# Altium footprint library TQFP.PcbLib: 8 footprints
Each footprint in its own frame and in the unit in brackets; x right, y up, seen from the top. Pads: shape width x height; smd on the part's side, far side on the other; paste and mask are expansions set on the pad; w line width, h text height; cw(c..) or ccw(c..) is an arc to the next point about the centre after c.
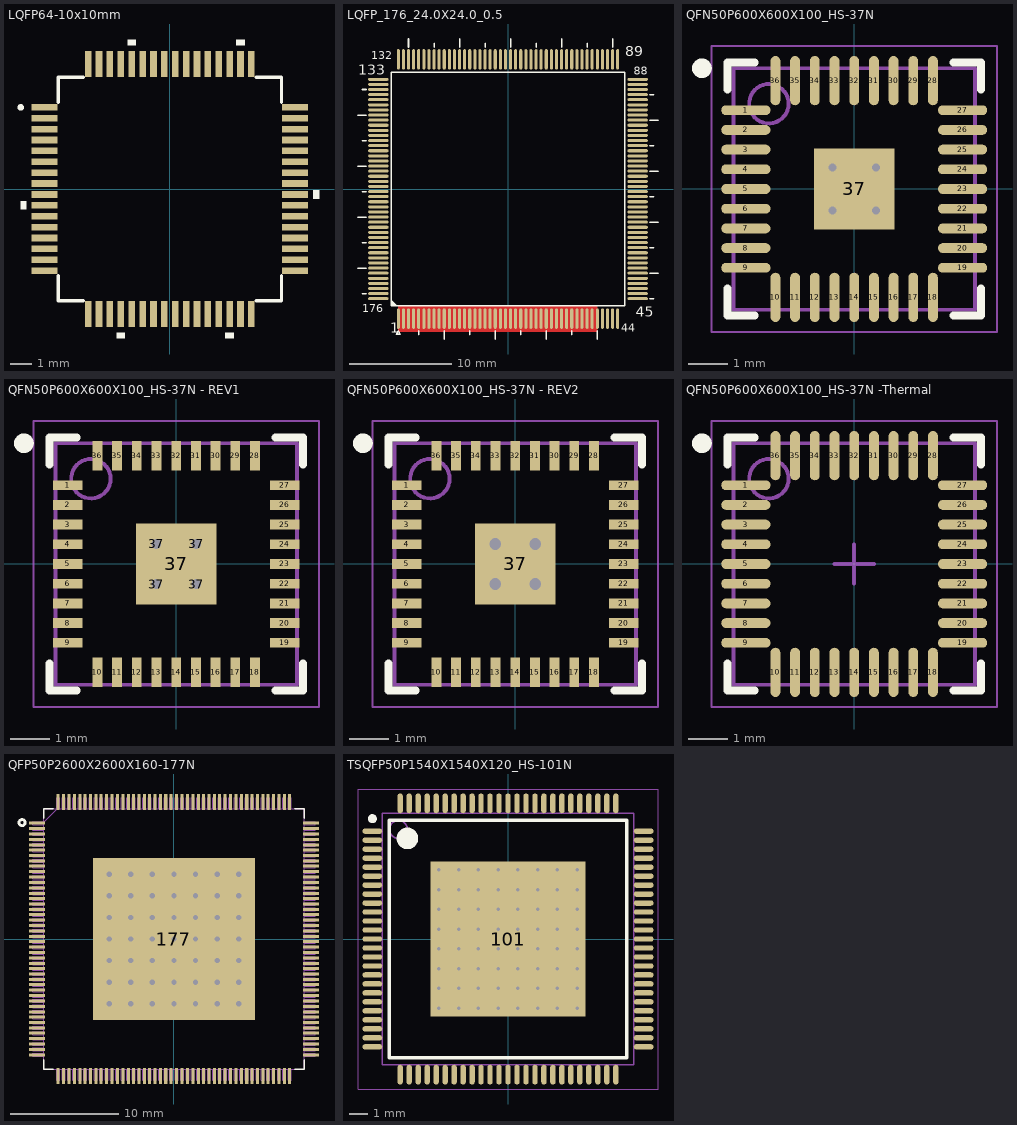
[diagram p0: the footprints below, top view; thin cyan lines are the x and y axes]

## LQFP64-10x10mm [mm] "Pitch 0.50mm"
height 1.4
pads (64):
  rect 1.194x0.305 smd: 1(-5.75,3.75) 2(-5.75,3.25) 3(-5.75,2.75) 4(-5.75,2.25) 5(-5.75,1.75) 6(-5.75,1.25) 7(-5.75,0.75) 8(-5.75,0.25) 9(-5.75,-0.25) 10(-5.75,-0.75) 11(-5.75,-1.25) 12(-5.75,-1.75) 13(-5.75,-2.25) 14(-5.75,-2.75) 15(-5.75,-3.25) 16(-5.75,-3.75) 33(5.75,-3.75) 34(5.75,-3.25) 35(5.75,-2.75) 36(5.75,-2.25) 37(5.75,-1.75) 38(5.75,-1.25) 39(5.75,-0.75) 40(5.75,-0.25) 41(5.75,0.25) 42(5.75,0.75) 43(5.75,1.25) 44(5.75,1.75) 45(5.75,2.25) 46(5.75,2.75) 47(5.75,3.25) 48(5.75,3.75)
  rect 0.305x1.194 smd: 17(-3.75,-5.75) 18(-3.25,-5.75) 19(-2.75,-5.75) 20(-2.25,-5.75) 21(-1.75,-5.75) 22(-1.25,-5.75) 23(-0.75,-5.75) 24(-0.25,-5.75) 25(0.25,-5.75) 26(0.75,-5.75) 27(1.25,-5.75) 28(1.75,-5.75) 29(2.25,-5.75) 30(2.75,-5.75) 31(3.25,-5.75) 32(3.75,-5.75) 49(3.75,5.75) 50(3.25,5.75) 51(2.75,5.75) 52(2.25,5.75) 53(1.75,5.75) 54(1.25,5.75) 55(0.75,5.75) 56(0.25,5.75) 57(-0.25,5.75) 58(-0.75,5.75) 59(-1.25,5.75) 60(-1.75,5.75) 61(-2.25,5.75) 62(-2.75,5.75) 63(-3.25,5.75) 64(-3.75,5.75)
Top Overlay:
  circle w0.152: c-6.851,3.75 r0.076
  region: -1.559,6.601 -1.94,6.601 -1.94,6.855 -1.559,6.855
  region: 3.441,6.601 3.06,6.601 3.06,6.855 3.441,6.855
  region: 6.601,-0.059 6.855,-0.059 6.855,-0.44 6.601,-0.44
  region: 2.94,-6.601 2.559,-6.601 2.559,-6.855 2.94,-6.855
  region: -2.06,-6.601 -2.441,-6.601 -2.441,-6.855 -2.06,-6.855
  region: -6.601,-0.56 -6.855,-0.56 -6.855,-0.941 -6.601,-0.941
  lines w0.152: -5.131,-3.975 -5.131,-5.131 -3.975,-5.131 ; -5.131,3.975 -5.131,5.131 -3.975,5.131 ; 3.975,-5.131 5.131,-5.131 5.131,-3.975 ; 3.975,5.131 5.131,5.131 5.131,3.975
3D body "LQFP64-10x10mm.step": height 1.6, standoff 0, extent -5.997,-5.997 5.997,5.997

## LQFP_176_24.0X24.0_0.5 [mm]
pads (176):
  oval 0.3x2 smd: 1(-10.75,-12.7) 2(-10.25,-12.7) 3(-9.75,-12.7) 4(-9.25,-12.7) 5(-8.75,-12.7) 6(-8.25,-12.7) 7(-7.75,-12.7) 8(-7.25,-12.7) 9(-6.75,-12.7) 10(-6.25,-12.7) 11(-5.75,-12.7) 12(-5.25,-12.7) 13(-4.75,-12.7) 14(-4.25,-12.7) 15(-3.75,-12.7) 16(-3.25,-12.7) 17(-2.75,-12.7) 18(-2.25,-12.7) 19(-1.75,-12.7) 20(-1.25,-12.7) 21(-0.75,-12.7) 22(-0.25,-12.7) 23(0.25,-12.7) 24(0.75,-12.7) 25(1.25,-12.7) 26(1.75,-12.7) 27(2.25,-12.7) 28(2.75,-12.7) 29(3.25,-12.7) 30(3.75,-12.7) 31(4.25,-12.7) 32(4.75,-12.7) 33(5.25,-12.7) 34(5.75,-12.7) 35(6.25,-12.7) 36(6.75,-12.7) 37(7.25,-12.7) 38(7.75,-12.7) 39(8.25,-12.7) 40(8.75,-12.7) 41(9.25,-12.7) 42(9.75,-12.7) 43(10.25,-12.7) 44(10.75,-12.7) 89(10.75,12.7) 90(10.25,12.7) 91(9.75,12.7) 92(9.25,12.7) 93(8.75,12.7) 94(8.25,12.7) 95(7.75,12.7) 96(7.25,12.7) 97(6.75,12.7) 98(6.25,12.7) 99(5.75,12.7) 100(5.25,12.7) 101(4.75,12.7) 102(4.25,12.7) 103(3.75,12.7) 104(3.25,12.7) 105(2.75,12.7) 106(2.25,12.7) 107(1.75,12.7) 108(1.25,12.7) 109(0.75,12.7) 110(0.25,12.7) 111(-0.25,12.7) 112(-0.75,12.7) 113(-1.25,12.7) 114(-1.75,12.7) 115(-2.25,12.7) 116(-2.75,12.7) 117(-3.25,12.7) 118(-3.75,12.7) 119(-4.25,12.7) 120(-4.75,12.7) 121(-5.25,12.7) 122(-5.75,12.7) 123(-6.25,12.7) 124(-6.75,12.7) 125(-7.25,12.7) 126(-7.75,12.7) 127(-8.25,12.7) 128(-8.75,12.7) 129(-9.25,12.7) 130(-9.75,12.7) 131(-10.25,12.7) 132(-10.75,12.7)
  oval 2x0.3 smd: 45(12.7,-10.75) 46(12.7,-10.25) 47(12.7,-9.75) 48(12.7,-9.25) 49(12.7,-8.75) 50(12.7,-8.25) 51(12.7,-7.75) 52(12.7,-7.25) 53(12.7,-6.75) 54(12.7,-6.25) 55(12.7,-5.75) 56(12.7,-5.25) 57(12.7,-4.75) 58(12.7,-4.25) 59(12.7,-3.75) 60(12.7,-3.25) 61(12.7,-2.75) 62(12.7,-2.25) 63(12.7,-1.75) 64(12.7,-1.25) 65(12.7,-0.75) 66(12.7,-0.25) 67(12.7,0.25) 68(12.7,0.75) 69(12.7,1.25) 70(12.7,1.75) 71(12.7,2.25) 72(12.7,2.75) 73(12.7,3.25) 74(12.7,3.75) 75(12.7,4.25) 76(12.7,4.75) 77(12.7,5.25) 78(12.7,5.75) 79(12.7,6.25) 80(12.7,6.75) 81(12.7,7.25) 82(12.7,7.75) 83(12.7,8.25) 84(12.7,8.75) 85(12.7,9.25) 86(12.7,9.75) 87(12.7,10.25) 88(12.7,10.75) 133(-12.7,10.75) 134(-12.7,10.25) 135(-12.7,9.75) 136(-12.7,9.25) 137(-12.7,8.75) 138(-12.7,8.25) 139(-12.7,7.75) 140(-12.7,7.25) 141(-12.7,6.75) 142(-12.7,6.25) 143(-12.7,5.75) 144(-12.7,5.25) 145(-12.7,4.75) 146(-12.7,4.25) 147(-12.7,3.75) 148(-12.7,3.25) 149(-12.7,2.75) 150(-12.7,2.25) 151(-12.7,1.75) 152(-12.7,1.25) 153(-12.7,0.75) 154(-12.7,0.25) 155(-12.7,-0.25) 156(-12.7,-0.75) 157(-12.7,-1.25) 158(-12.7,-1.75) 159(-12.7,-2.25) 160(-12.7,-2.75) 161(-12.7,-3.25) 162(-12.7,-3.75) 163(-12.7,-4.25) 164(-12.7,-4.75) 165(-12.7,-5.25) 166(-12.7,-5.75) 167(-12.7,-6.25) 168(-12.7,-6.75) 169(-12.7,-7.25) 170(-12.7,-7.75) 171(-12.7,-8.25) 172(-12.7,-8.75) 173(-12.7,-9.25) 174(-12.7,-9.75) 175(-12.7,-10.25) 176(-12.7,-10.75)
Top Layer:
  pour cut-out: -10.75,-11.4 8.75,-11.4 8.75,-14 -10.75,-14
Top Overlay:
  region: -11.425,-10.925 -11.425,-11.425 -10.925,-11.425
  lines w0.15: -14.7,-7.75 -13.9,-7.75 ; -14.7,-2.75 -13.9,-2.75 ; -14.7,2.25 -13.9,2.25 ; -14.7,7.25 -13.9,7.25 ; -14.3,-10.25 -13.9,-10.25 ; -14.3,-5.25 -13.9,-5.25 ; -14.3,-0.25 -13.9,-0.25 ; -14.3,4.75 -13.9,4.75 ; -14.3,9.75 -13.9,9.75 ; -11.425,-10.925 -10.925,-11.425 ; -9.75,13.9 -9.75,14.7 ; -8.75,-14.3 -8.75,-13.9 ; -7.25,13.9 -7.25,14.3 ; -6.25,-14.7 -6.25,-13.9 ; -4.75,13.9 -4.75,14.7 ; -3.75,-14.3 -3.75,-13.9 ; -2.25,13.9 -2.25,14.3 ; -1.25,-14.7 -1.25,-13.9 ; 0.25,13.9 0.25,14.7 ; 1.25,-14.3 1.25,-13.9 ; 2.75,13.9 2.75,14.3 ; 3.75,-14.7 3.75,-13.9 ; 5.25,13.9 5.25,14.7 ; 6.25,-14.3 6.25,-13.9 ; 7.75,13.9 7.75,14.3 ; 8.75,-14.7 8.75,-13.9 ; 10.25,13.9 10.25,14.7 ; 13.9,-10.75 14.3,-10.75 ; 13.9,-8.25 14.7,-8.25 ; 13.9,-5.75 14.3,-5.75 ; 13.9,-3.25 14.7,-3.25 ; 13.9,-0.75 14.3,-0.75 ; 13.9,1.75 14.7,1.75 ; 13.9,4.25 14.3,4.25 ; 13.9,6.75 14.7,6.75 ; 13.9,9.25 14.3,9.25 ; -11.425,-11.425 11.425,-11.425 11.425,11.425 -11.425,11.425 -11.425,-11.425 ; -10.95,-14.246 -10.75,-13.9 -10.55,-14.246 -10.95,-14.246
  text "176" at -14.3,-12.1 h0.8
  text "133" at -14.7,11.2 h1
  text "132" at -13.4,12.7 h0.8
  text "89" at 11.5,13 h1
  text "88" at 12.3,11.2 h0.8
  text "45" at 12.5,-12.5 h1
  text "1" at -11.55,-14.1 h1
  text "44" at 11.1,-14 h0.8
3D body "PGF176.step": height 1.6, standoff 0, extent -13.106,-13.081 13.106,13.131

## QFN50P600X600X100_HS-37N [mm] "QFN, 36-Leads, Body 6.00x6.00mm, Pitch 0.50mm, Thermal Pad 2.05x2.05mm, IPC Medium Density"
height 1
pads (37):
  oval 1.25x0.25 smd: 1(-2.75,2) 2(-2.75,1.5) 3(-2.75,1) 4(-2.75,0.5) 5(-2.75,0) 6(-2.75,-0.5) 7(-2.75,-1) 8(-2.75,-1.5) 9(-2.75,-2) 19(2.75,-2) 20(2.75,-1.5) 21(2.75,-1) 22(2.75,-0.5) 23(2.75,0) 24(2.75,0.5) 25(2.75,1) 26(2.75,1.5) 27(2.75,2)
  oval 0.25x1.25 smd: 10(-2,-2.75) 11(-1.5,-2.75) 12(-1,-2.75) 13(-0.5,-2.75) 14(0,-2.75) 15(0.5,-2.75) 16(1,-2.75) 17(1.5,-2.75) 18(2,-2.75) 28(2,2.75) 29(1.5,2.75) 30(1,2.75) 31(0.5,2.75) 32(0,2.75) 33(-0.5,2.75) 34(-1,2.75) 35(-1.5,2.75) 36(-2,2.75)
  rect 2.05x2.05 smd: 37(0,0)
via -0.55,0.55 diameter 0.5 hole 0.2
via 0.55,0.55 diameter 0.5 hole 0.2
via -0.55,-0.55 diameter 0.5 hole 0.2
via 0.55,-0.55 diameter 0.5 hole 0.2
Top Overlay:
  circle w0.25: c-3.865,3.065 r0.125
  lines w0.2: -3.215,-2.525 -3.215,-3.215 -2.525,-3.215 ; -3.215,2.525 -3.215,3.215 -2.525,3.215 ; 2.525,-3.215 3.215,-3.215 3.215,-2.525 ; 2.525,3.215 3.215,3.215 3.215,2.525
Mechanical 13:
  circle w0.1: c-2.165,2.165 r0.5
  lines w0.1: -3.065,-3.065 -3.065,3.065 3.065,3.065 3.065,-3.065 -3.065,-3.065
Mechanical 15:
  lines w0.05: -3.625,-3.625 -3.625,3.625 3.625,3.625 3.625,-3.625 -3.625,-3.625
  lines w0.1: -0.5,0 0.5,0 ; 0,-0.5 0,0.5
3D body "QFN50P600X600X100_HS-37N.step": height 1, standoff 0, extent -3.085,-3.085 3.085,3.085

## QFN50P600X600X100_HS-37N - REV1 [mm] "QFN, 36-Leads, Body 6.00x6.00mm, Pitch 0.50mm, Thermal Pad 2.05x2.05mm, IPC Medium Density"
height 1
pads (41):
  rect 0.75x0.25 smd: 1(-2.75,2) 2(-2.75,1.5) 3(-2.75,1) 4(-2.75,0.5) 5(-2.75,0) 6(-2.75,-0.5) 7(-2.75,-1) 8(-2.75,-1.5) 9(-2.75,-2) 19(2.75,-2) 20(2.75,-1.5) 21(2.75,-1) 22(2.75,-0.5) 23(2.75,0) 24(2.75,0.5) 25(2.75,1) 26(2.75,1.5) 27(2.75,2)
  rect 0.25x0.75 smd: 10(-2,-2.75) 11(-1.5,-2.75) 12(-1,-2.75) 13(-0.5,-2.75) 14(0,-2.75) 15(0.5,-2.75) 16(1,-2.75) 17(1.5,-2.75) 18(2,-2.75) 28(2,2.75) 29(1.5,2.75) 30(1,2.75) 31(0.5,2.75) 32(0,2.75) 33(-0.5,2.75) 34(-1,2.75) 35(-1.5,2.75) 36(-2,2.75)
  round 0.5 hole 0.25: 37(-0.508,-0.508) 37(-0.508,0.508) 37(0.508,-0.508) 37(0.508,0.508)
  rect 2.05x2.05 smd: 37(0,0)
Top Overlay:
  circle w0.25: c-3.865,3.065 r0.125
  lines w0.2: -3.215,-2.525 -3.215,-3.215 -2.525,-3.215 ; -3.215,2.525 -3.215,3.215 -2.525,3.215 ; 2.525,-3.215 3.215,-3.215 3.215,-2.525 ; 2.525,3.215 3.215,3.215 3.215,2.525
Mechanical 13:
  circle w0.1: c-2.165,2.165 r0.5
  lines w0.1: -3.065,-3.065 -3.065,3.065 3.065,3.065 3.065,-3.065 -3.065,-3.065
Mechanical 15:
  lines w0.05: -3.625,-3.625 -3.625,3.625 3.625,3.625 3.625,-3.625 -3.625,-3.625
  lines w0.1: -0.5,0 0.5,0 ; 0,-0.5 0,0.5
3D body "QFN50P600X600X100_HS-37N.step": height 1, standoff 0, extent -3.085,-3.085 3.085,3.085

## QFN50P600X600X100_HS-37N - REV2 [mm] "QFN, 36-Leads, Body 6.00x6.00mm, Pitch 0.50mm, Thermal Pad 2.05x2.05mm, IPC Medium Density"
height 1
pads (37):
  rect 0.75x0.25 smd: 1(-2.75,2) 2(-2.75,1.5) 3(-2.75,1) 4(-2.75,0.5) 5(-2.75,0) 6(-2.75,-0.5) 7(-2.75,-1) 8(-2.75,-1.5) 9(-2.75,-2) 19(2.75,-2) 20(2.75,-1.5) 21(2.75,-1) 22(2.75,-0.5) 23(2.75,0) 24(2.75,0.5) 25(2.75,1) 26(2.75,1.5) 27(2.75,2)
  rect 0.25x0.75 smd: 10(-2,-2.75) 11(-1.5,-2.75) 12(-1,-2.75) 13(-0.5,-2.75) 14(0,-2.75) 15(0.5,-2.75) 16(1,-2.75) 17(1.5,-2.75) 18(2,-2.75) 28(2,2.75) 29(1.5,2.75) 30(1,2.75) 31(0.5,2.75) 32(0,2.75) 33(-0.5,2.75) 34(-1,2.75) 35(-1.5,2.75) 36(-2,2.75)
  rect 2.05x2.05 smd: 37(0,0)
via -0.508,0.508 diameter 0.5 hole 0.3
via 0.508,0.508 diameter 0.5 hole 0.3
via -0.508,-0.508 diameter 0.5 hole 0.3
via 0.508,-0.508 diameter 0.5 hole 0.3
Top Overlay:
  circle w0.25: c-3.865,3.065 r0.125
  lines w0.2: -3.215,-2.525 -3.215,-3.215 -2.525,-3.215 ; -3.215,2.525 -3.215,3.215 -2.525,3.215 ; 2.525,-3.215 3.215,-3.215 3.215,-2.525 ; 2.525,3.215 3.215,3.215 3.215,2.525
Mechanical 13:
  circle w0.1: c-2.165,2.165 r0.5
  lines w0.1: -3.065,-3.065 3.065,-3.065 3.065,3.065 -3.065,3.065 -3.065,-3.065
Mechanical 15:
  lines w0.05: -3.625,-3.625 3.625,-3.625 3.625,3.625 -3.625,3.625 -3.625,-3.625
  lines w0.1: -0.5,0 0.5,0 ; 0,-0.5 0,0.5
3D body "QFN50P600X600X100_HS-37N.step": height 1, standoff 0, extent -3.085,-3.085 3.085,3.085

## QFN50P600X600X100_HS-37N -Thermal [mm] "QFN, 36-Leads, Body 6.00x6.00mm, Pitch 0.50mm, Thermal Pad 2.05x2.05mm, IPC Medium Density"
height 1
pads (36):
  oval 1.25x0.25 smd: 1(-2.75,2) 2(-2.75,1.5) 3(-2.75,1) 4(-2.75,0.5) 5(-2.75,0) 6(-2.75,-0.5) 7(-2.75,-1) 8(-2.75,-1.5) 9(-2.75,-2) 19(2.75,-2) 20(2.75,-1.5) 21(2.75,-1) 22(2.75,-0.5) 23(2.75,0) 24(2.75,0.5) 25(2.75,1) 26(2.75,1.5) 27(2.75,2)
  oval 0.25x1.25 smd: 10(-2,-2.75) 11(-1.5,-2.75) 12(-1,-2.75) 13(-0.5,-2.75) 14(0,-2.75) 15(0.5,-2.75) 16(1,-2.75) 17(1.5,-2.75) 18(2,-2.75) 28(2,2.75) 29(1.5,2.75) 30(1,2.75) 31(0.5,2.75) 32(0,2.75) 33(-0.5,2.75) 34(-1,2.75) 35(-1.5,2.75) 36(-2,2.75)
Top Overlay:
  circle w0.25: c-3.865,3.065 r0.125
  lines w0.2: -3.215,-2.525 -3.215,-3.215 -2.525,-3.215 ; -3.215,2.525 -3.215,3.215 -2.525,3.215 ; 2.525,-3.215 3.215,-3.215 3.215,-2.525 ; 2.525,3.215 3.215,3.215 3.215,2.525
Mechanical 13:
  circle w0.1: c-2.165,2.165 r0.5
  lines w0.1: -3.065,-3.065 -3.065,3.065 3.065,3.065 3.065,-3.065 -3.065,-3.065
Mechanical 15:
  lines w0.05: -3.625,-3.625 -3.625,3.625 3.625,3.625 3.625,-3.625 -3.625,-3.625
  lines w0.1: -0.5,0 0.5,0 ; 0,-0.5 0,0.5
3D body "QFN50P600X600X100_HS-37N.step": height 1, standoff 0, extent -3.085,-3.085 3.085,3.085

## QFP50P2600X2600X160-177N [mil]
pads (226):
  rect 58x11 smd: 1(-501,423) 2(-501,404) 3(-501,384) 4(-501,364) 5(-501,344) 6(-501,325) 7(-501,305) 8(-501,285) 9(-501,266) 10(-501,246) 11(-501,226) 12(-501,207) 13(-501,187) 14(-501,167) 15(-501,148) 16(-501,128) 17(-501,108) 18(-501,89) 19(-501,69) 20(-501,49) 21(-501,30) 22(-501,10) 23(-501,-10) 24(-501,-30) 25(-501,-49) 26(-501,-69) 27(-501,-89) 28(-501,-108) 29(-501,-128) 30(-501,-148) 31(-501,-167) 32(-501,-187) 33(-501,-207) 34(-501,-226) 35(-501,-246) 36(-501,-266) 37(-501,-285) 38(-501,-305) 39(-501,-325) 40(-501,-344) 41(-501,-364) 42(-501,-384) 43(-501,-404) 44(-501,-423) 89(501,-423) 90(501,-404) 91(501,-384) 92(501,-364) 93(501,-344) 94(501,-325) 95(501,-305) 96(501,-285) 97(501,-266) 98(501,-246) 99(501,-226) 100(501,-207) 101(501,-187) 102(501,-167) 103(501,-148) 104(501,-128) 105(501,-108) 106(501,-89) 107(501,-69) 108(501,-49) 109(501,-30) 110(501,-10) 111(501,10) 112(501,30) 113(501,49) 114(501,69) 115(501,89) 116(501,108) 117(501,128) 118(501,148) 119(501,167) 120(501,187) 121(501,207) 122(501,226) 123(501,246) 124(501,266) 125(501,285) 126(501,305) 127(501,325) 128(501,344) 129(501,364) 130(501,384) 131(501,404) 132(501,423)
  rect 11x58 smd: 45(-423,-501) 46(-404,-501) 47(-384,-501) 48(-364,-501) 49(-344,-501) 50(-325,-501) 51(-305,-501) 52(-285,-501) 53(-266,-501) 54(-246,-501) 55(-226,-501) 56(-207,-501) 57(-187,-501) 58(-167,-501) 59(-148,-501) 60(-128,-501) 61(-108,-501) 62(-89,-501) 63(-69,-501) 64(-49,-501) 65(-30,-501) 66(-10,-501) 67(10,-501) 68(30,-501) 69(49,-501) 70(69,-501) 71(89,-501) 72(108,-501) 73(128,-501) 74(148,-501) 75(167,-501) 76(187,-501) 77(207,-501) 78(226,-501) 79(246,-501) 80(266,-501) 81(285,-501) 82(305,-501) 83(325,-501) 84(344,-501) 85(364,-501) 86(384,-501) 87(404,-501) 88(423,-501) 133(423,501) 134(404,501) 135(384,501) 136(364,501) 137(344,501) 138(325,501) 139(305,501) 140(285,501) 141(266,501) 142(246,501) 143(226,501) 144(207,501) 145(187,501) 146(167,501) 147(148,501) 148(128,501) 149(108,501) 150(89,501) 151(69,501) 152(49,501) 153(30,501) 154(10,501) 155(-10,501) 156(-30,501) 157(-49,501) 158(-69,501) 159(-89,501) 160(-108,501) 161(-128,501) 162(-148,501) 163(-167,501) 164(-187,501) 165(-207,501) 166(-226,501) 167(-246,501) 168(-266,501) 169(-285,501) 170(-305,501) 171(-325,501) 172(-344,501) 173(-364,501) 174(-384,501) 175(-404,501) 176(-423,501)
  round 39.37 hole 19.68: 177(-236.22,-236.22) 177(-236.22,-157.48) 177(-236.22,-78.74) 177(-236.22,0) 177(-236.22,78.74) 177(-236.22,157.48) 177(-236.22,236.22) 177(-157.48,-236.22) 177(-157.48,-157.48) 177(-157.48,-78.74) 177(-157.48,0) 177(-157.48,78.74) 177(-157.48,157.48) 177(-157.48,236.22) 177(-78.74,-236.22) 177(-78.74,-157.48) 177(-78.74,-78.74) 177(-78.74,0) 177(-78.74,78.74) 177(-78.74,157.48) 177(-78.74,236.22) 177(0,-236.22) 177(0,-157.48) 177(0,-78.74) 177(0,0) 177(0,78.74) 177(0,157.48) 177(0,236.22) 177(78.74,-236.22) 177(78.74,-157.48) 177(78.74,-78.74) 177(78.74,0) 177(78.74,78.74) 177(78.74,157.48) 177(78.74,236.22) 177(157.48,-236.22) 177(157.48,-157.48) 177(157.48,-78.74) 177(157.48,0) 177(157.48,78.74) 177(157.48,157.48) 177(157.48,236.22) 177(236.22,-236.22) 177(236.22,-157.48) 177(236.22,-78.74) 177(236.22,0) 177(236.22,78.74) 177(236.22,157.48) 177(236.22,236.22)
  rect 590.55x590.55 smd: 177(0,0)
Top Overlay:
  circle w10: c-555.12,425.2 r11.14
  lines w6: -476,-442 -476,-476 -442,-476 ; -476,442 -476,476 -442,476 ; 442,-476 476,-476 476,-442 ; 442,476 476,476 476,442
Mechanical 4:
  drawing of 1422 lines, arcs and shapes, not listed
3D body "PTP0176F.stp": height 59.06, standoff 0, extent -512.41,-512.41 512.43,512.43

## TSQFP50P1540X1540X120_HS-101N [mm] "TSQFP, 100-Leads, Body 14.00x14.00mm, Pitch 0.50mm, Thermal Pad 8.64x8.64mm, IPC Medium Density"
height 1.2
pads (101):
  oval 1.1x0.3 smd: 1(-7.55,6) 2(-7.55,5.5) 3(-7.55,5) 4(-7.55,4.5) 5(-7.55,4) 6(-7.55,3.5) 7(-7.55,3) 8(-7.55,2.5) 9(-7.55,2) 10(-7.55,1.5) 11(-7.55,1) 12(-7.55,0.5) 13(-7.55,0) 14(-7.55,-0.5) 15(-7.55,-1) 16(-7.55,-1.5) 17(-7.55,-2) 18(-7.55,-2.5) 19(-7.55,-3) 20(-7.55,-3.5) 21(-7.55,-4) 22(-7.55,-4.5) 23(-7.55,-5) 24(-7.55,-5.5) 25(-7.55,-6) 51(7.55,-6) 52(7.55,-5.5) 53(7.55,-5) 54(7.55,-4.5) 55(7.55,-4) 56(7.55,-3.5) 57(7.55,-3) 58(7.55,-2.5) 59(7.55,-2) 60(7.55,-1.5) 61(7.55,-1) 62(7.55,-0.5) 63(7.55,0) 64(7.55,0.5) 65(7.55,1) 66(7.55,1.5) 67(7.55,2) 68(7.55,2.5) 69(7.55,3) 70(7.55,3.5) 71(7.55,4) 72(7.55,4.5) 73(7.55,5) 74(7.55,5.5) 75(7.55,6)
  oval 0.3x1.1 smd: 26(-6,-7.55) 27(-5.5,-7.55) 28(-5,-7.55) 29(-4.5,-7.55) 30(-4,-7.55) 31(-3.5,-7.55) 32(-3,-7.55) 33(-2.5,-7.55) 34(-2,-7.55) 35(-1.5,-7.55) 36(-1,-7.55) 37(-0.5,-7.55) 38(0,-7.55) 39(0.5,-7.55) 40(1,-7.55) 41(1.5,-7.55) 42(2,-7.55) 43(2.5,-7.55) 44(3,-7.55) 45(3.5,-7.55) 46(4,-7.55) 47(4.5,-7.55) 48(5,-7.55) 49(5.5,-7.55) 50(6,-7.55) 76(6,7.55) 77(5.5,7.55) 78(5,7.55) 79(4.5,7.55) 80(4,7.55) 81(3.5,7.55) 82(3,7.55) 83(2.5,7.55) 84(2,7.55) 85(1.5,7.55) 86(1,7.55) 87(0.5,7.55) 88(0,7.55) 89(-0.5,7.55) 90(-1,7.55) 91(-1.5,7.55) 92(-2,7.55) 93(-2.5,7.55) 94(-3,7.55) 95(-3.5,7.55) 96(-4,7.55) 97(-4.5,7.55) 98(-5,7.55) 99(-5.5,7.55) 100(-6,7.55)
  rect 8.64x8.64 smd: 101(0,0)
via -3.85,3.85 diameter 0.5 hole 0.2
via -2.75,3.85 diameter 0.5 hole 0.2
via -1.65,3.85 diameter 0.5 hole 0.2
via -0.55,3.85 diameter 0.5 hole 0.2
via 0.55,3.85 diameter 0.5 hole 0.2
via 1.65,3.85 diameter 0.5 hole 0.2
via 2.75,3.85 diameter 0.5 hole 0.2
via 3.85,3.85 diameter 0.5 hole 0.2
via -3.85,2.75 diameter 0.5 hole 0.2
via -2.75,2.75 diameter 0.5 hole 0.2
via -1.65,2.75 diameter 0.5 hole 0.2
via -0.55,2.75 diameter 0.5 hole 0.2
via 0.55,2.75 diameter 0.5 hole 0.2
via 1.65,2.75 diameter 0.5 hole 0.2
via 2.75,2.75 diameter 0.5 hole 0.2
via 3.85,2.75 diameter 0.5 hole 0.2
via -3.85,1.65 diameter 0.5 hole 0.2
via -2.75,1.65 diameter 0.5 hole 0.2
via -1.65,1.65 diameter 0.5 hole 0.2
via -0.55,1.65 diameter 0.5 hole 0.2
via 0.55,1.65 diameter 0.5 hole 0.2
via 1.65,1.65 diameter 0.5 hole 0.2
via 2.75,1.65 diameter 0.5 hole 0.2
via 3.85,1.65 diameter 0.5 hole 0.2
via -3.85,0.55 diameter 0.5 hole 0.2
via -2.75,0.55 diameter 0.5 hole 0.2
via -1.65,0.55 diameter 0.5 hole 0.2
via -0.55,0.55 diameter 0.5 hole 0.2
via 0.55,0.55 diameter 0.5 hole 0.2
via 1.65,0.55 diameter 0.5 hole 0.2
via 2.75,0.55 diameter 0.5 hole 0.2
via 3.85,0.55 diameter 0.5 hole 0.2
via -3.85,-0.55 diameter 0.5 hole 0.2
via -2.75,-0.55 diameter 0.5 hole 0.2
via -1.65,-0.55 diameter 0.5 hole 0.2
via -0.55,-0.55 diameter 0.5 hole 0.2
via 0.55,-0.55 diameter 0.5 hole 0.2
via 1.65,-0.55 diameter 0.5 hole 0.2
via 2.75,-0.55 diameter 0.5 hole 0.2
via 3.85,-0.55 diameter 0.5 hole 0.2
via -3.85,-1.65 diameter 0.5 hole 0.2
via -2.75,-1.65 diameter 0.5 hole 0.2
via -1.65,-1.65 diameter 0.5 hole 0.2
via -0.55,-1.65 diameter 0.5 hole 0.2
via 0.55,-1.65 diameter 0.5 hole 0.2
via 1.65,-1.65 diameter 0.5 hole 0.2
via 2.75,-1.65 diameter 0.5 hole 0.2
via 3.85,-1.65 diameter 0.5 hole 0.2
via -3.85,-2.75 diameter 0.5 hole 0.2
via -2.75,-2.75 diameter 0.5 hole 0.2
via -1.65,-2.75 diameter 0.5 hole 0.2
via -0.55,-2.75 diameter 0.5 hole 0.2
via 0.55,-2.75 diameter 0.5 hole 0.2
via 1.65,-2.75 diameter 0.5 hole 0.2
via 2.75,-2.75 diameter 0.5 hole 0.2
via 3.85,-2.75 diameter 0.5 hole 0.2
via -3.85,-3.85 diameter 0.5 hole 0.2
via -2.75,-3.85 diameter 0.5 hole 0.2
via -1.65,-3.85 diameter 0.5 hole 0.2
via -0.55,-3.85 diameter 0.5 hole 0.2
via 0.55,-3.85 diameter 0.5 hole 0.2
via 1.65,-3.85 diameter 0.5 hole 0.2
via 2.75,-3.85 diameter 0.5 hole 0.2
via 3.85,-3.85 diameter 0.5 hole 0.2
Top Overlay:
  circle w0.25: c-7.55,6.7 r0.125
  circle w0.6: c-5.6,5.6 r0.3
  lines w0.2: -6.6,-6.6 -6.6,6.6 6.6,6.6 6.6,-6.6 -6.6,-6.6
Mechanical 13:
  circle w0.1: c-6.1,6.1 r0.5
  lines w0.1: -7,-7 -7,7 7,7 7,-7 -7,-7
Mechanical 15:
  lines w0.05: -8.35,-8.35 -8.35,8.35 8.35,8.35 8.35,-8.35 -8.35,-8.35
  lines w0.1: -0.5,0 0.5,0 ; 0,-0.5 0,0.5
3D body "TSQFP50P1540X1540X120_HS-101N.step": height 1.2, standoff 0, extent -7.7,-7.7 7.7,7.7